# Altium integrated library TI Power Management Power Supply Support.IntLib: 88 symbols (part 4 of 4)
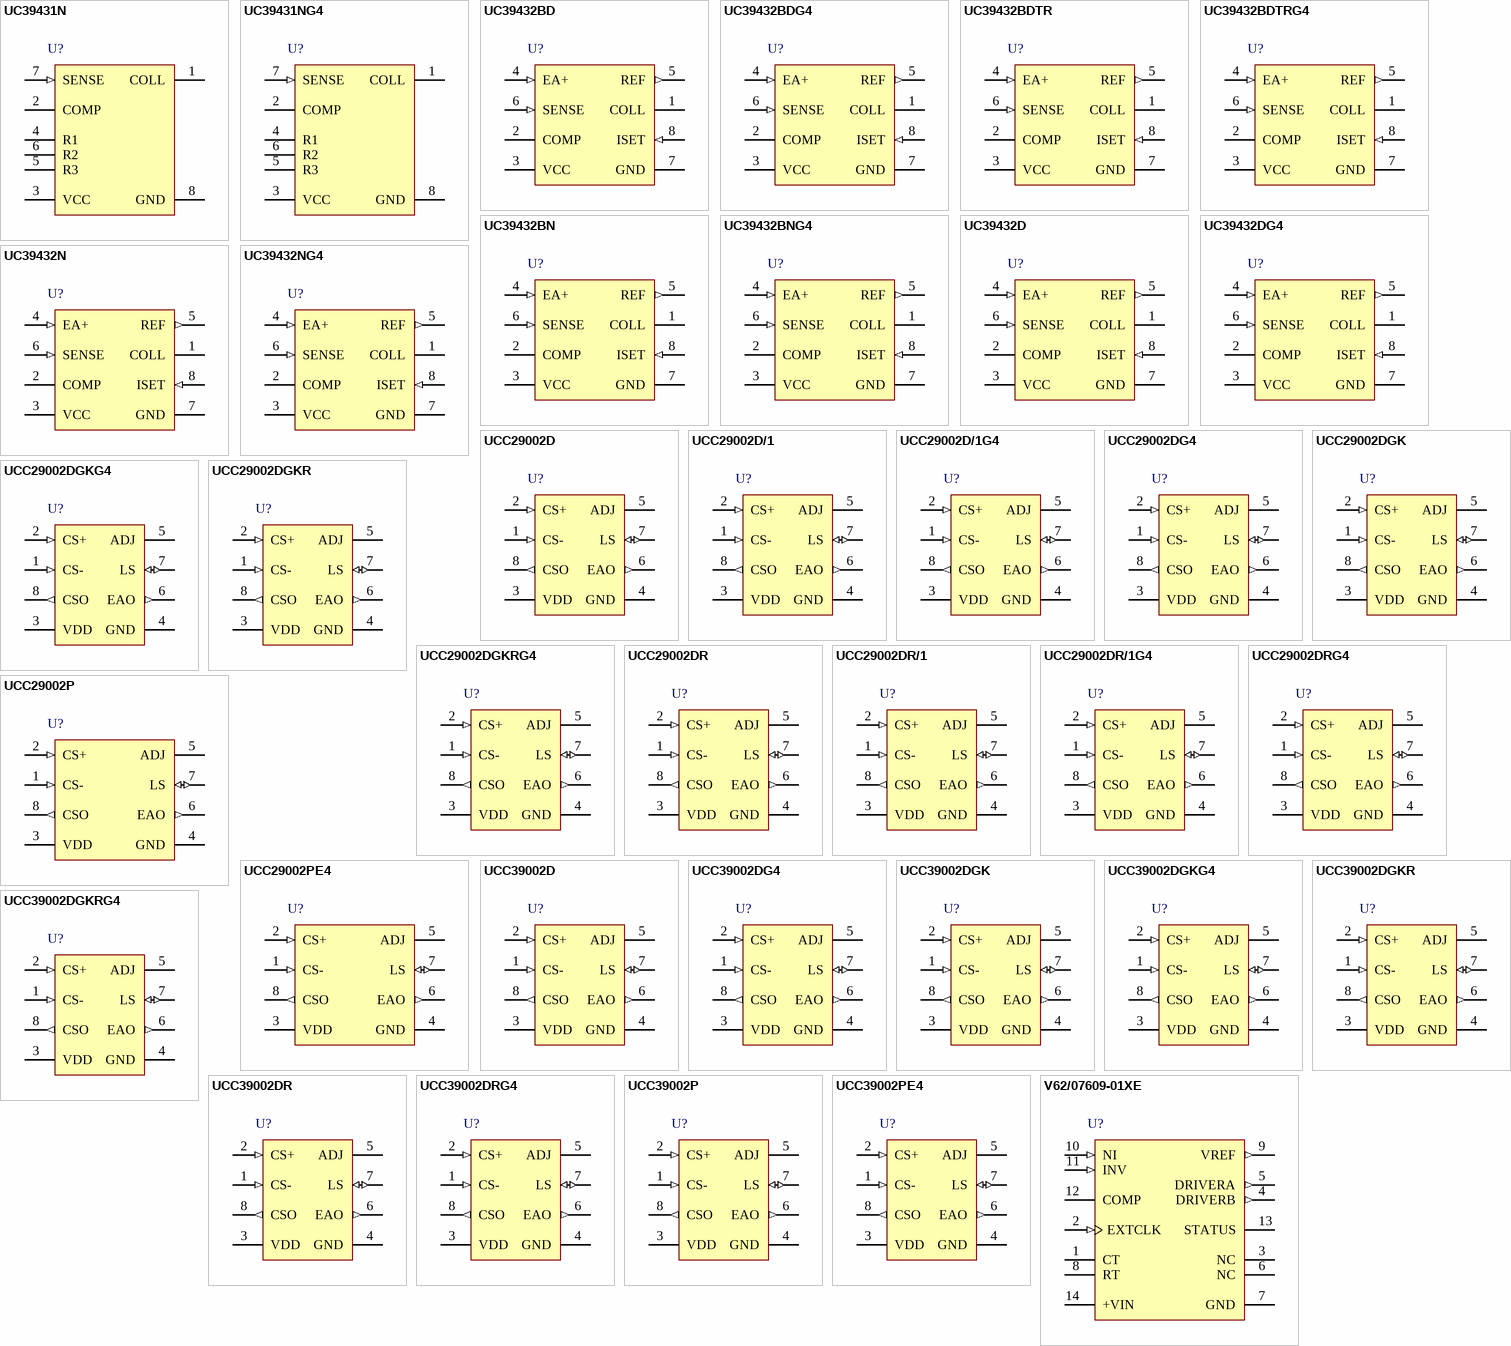
[diagram p5: symbols UC39431N to V62/07609-01XE]

## UCC39002DGKG4
designator U?
Advanced Loadshare Controller with UVLO, 4.375 to 14.25 V Supply, 0 to 70 degC, 8-pin VSSOP (DGK), Green (RoHS & no Sb/Br); Manufacturer: Texas Instruments; PartNumber: UCC39002DGKG4; Operating Supply Current(mA): 2.5; Operating Supply(Max)(V): 14.25; Operating Supply(Min)(V): 4.375; Rating: Catalog; Share Bus: Single-Ended; Startup Current(uA): 2500; UVLO: TRUE; DatasheetVersion: SLUS495H; PackageVersion: revE, May-2006; PackageReference: DGK8; PackageDescription: 8-Pin Thin Small Outline Package 3 x 3 mm Body ,0.65 mm Pitch; Supplier 1: Digi-Key; Supplier Part Number 1: UCC39002DGKG4-ND; Supplier 2: Newark; Supplier Part Number 2: 18M3324; Supplier 3: Mouser; Supplier Part Number 3: 595-UCC39002DGKG4; Eco-Plan: Green (RoHS & no Sb/Br); SubFamily: Load Share; Mounting Technology: Surface Mount; Code_JEDEC: MO-187-AA; ComponentLink1Description: Datasheet; ComponentLink1URL: http://www.ti.com/general/docs/lit/getliterature.tsp?genericPartNumber=UCC39002&fileType=pdf
footprint DGK8_N (TSOP, 8-Leads, Body 3x3mm, Pitch 0.65mm, IPC Medium Density)
footprint DGK8_L (TSOP, 8-Leads, Body 3x3mm, Pitch 0.65mm, IPC High Density)
footprint DGK8_M (TSOP, 8-Leads, Body 3x3mm, Pitch 0.65mm, IPC Low Density)
pins: 1 CS- (in) "Current sense amplifier inverting input.", 2 CS+ (in) "Current sense amplifier non-inverting input.", 3 VDD (power) "Power supply providing bias to the device. Bypass with a good quality, low ESL 0.1-uF to 1-uF, maximum, capacitor as close to the VDD pin and GND as possible.", 4 GND (power) "Ground. Reference ground and power ground for all device functions. Return the device to the low current sense- path of the converter.", 5 ADJ (power) "Adjust amplifier output. This is the buffered output of the error amplifier block to adjust output voltage of the power supply being controlled. This pin must always be connected to a voltage equal to or greater than VEAO + (See Datasheet)", 6 EAO (out) "Output for load share error amplifier. (Transconductance error amplifier.)", 7 LS (io) "Load share bus. Output of the load share bus driver amplifier.", 8 CSO (out) "Current sense amplifier output."

## UCC39002DGKR
designator U?
Advanced Loadshare Controller with UVLO, 4.375 to 14.25 V Supply, 0 to 70 degC, 8-pin VSSOP (DGK), Green (RoHS & no Sb/Br); Manufacturer: Texas Instruments; PartNumber: UCC39002DGKR; Operating Supply Current(mA): 2.5; Operating Supply(Max)(V): 14.25; Operating Supply(Min)(V): 4.375; Rating: Catalog; Share Bus: Single-Ended; Startup Current(uA): 2500; UVLO: TRUE; DatasheetVersion: SLUS495H; PackageVersion: revE, May-2006; PackageReference: DGK8; PackageDescription: 8-Pin Thin Small Outline Package 3 x 3 mm Body ,0.65 mm Pitch; Supplier 1: Digi-Key; Supplier Part Number 1: UCC39002DGKR-ND; Supplier 2: Newark; Supplier Part Number 2: 77C2550; Supplier 3: Mouser; Supplier Part Number 3: 595-UCC39002DGKR; Eco-Plan: Green (RoHS & no Sb/Br); SubFamily: Load Share; Mounting Technology: Surface Mount; Code_JEDEC: MO-187-AA; ComponentLink1Description: Datasheet; ComponentLink1URL: http://www.ti.com/general/docs/lit/getliterature.tsp?genericPartNumber=UCC39002&fileType=pdf
footprint DGK8_N (TSOP, 8-Leads, Body 3x3mm, Pitch 0.65mm, IPC Medium Density)
footprint DGK8_L (TSOP, 8-Leads, Body 3x3mm, Pitch 0.65mm, IPC High Density)
footprint DGK8_M (TSOP, 8-Leads, Body 3x3mm, Pitch 0.65mm, IPC Low Density)
pins: 1 CS- (in) "Current sense amplifier inverting input.", 2 CS+ (in) "Current sense amplifier non-inverting input.", 3 VDD (power) "Power supply providing bias to the device. Bypass with a good quality, low ESL 0.1-uF to 1-uF, maximum, capacitor as close to the VDD pin and GND as possible.", 4 GND (power) "Ground. Reference ground and power ground for all device functions. Return the device to the low current sense- path of the converter.", 5 ADJ (power) "Adjust amplifier output. This is the buffered output of the error amplifier block to adjust output voltage of the power supply being controlled. This pin must always be connected to a voltage equal to or greater than VEAO + (See Datasheet)", 6 EAO (out) "Output for load share error amplifier. (Transconductance error amplifier.)", 7 LS (io) "Load share bus. Output of the load share bus driver amplifier.", 8 CSO (out) "Current sense amplifier output."

## UCC39002DGKRG4
designator U?
Advanced Loadshare Controller with UVLO, 4.375 to 14.25 V Supply, 0 to 70 degC, 8-pin VSSOP (DGK), Green (RoHS & no Sb/Br); Manufacturer: Texas Instruments; PartNumber: UCC39002DGKRG4; Operating Supply Current(mA): 2.5; Operating Supply(Max)(V): 14.25; Operating Supply(Min)(V): 4.375; Rating: Catalog; Share Bus: Single-Ended; Startup Current(uA): 2500; UVLO: TRUE; DatasheetVersion: SLUS495H; PackageVersion: revE, May-2006; PackageReference: DGK8; PackageDescription: 8-Pin Thin Small Outline Package 3 x 3 mm Body ,0.65 mm Pitch; Supplier 1: Digi-Key; Supplier Part Number 1: UCC39002DGKRG4-ND; Supplier 2: Newark; Supplier Part Number 2: 27M1168; Supplier 3: Mouser; Supplier Part Number 3: 595-UCC39002DGKRG4; Eco-Plan: Green (RoHS & no Sb/Br); SubFamily: Load Share; Mounting Technology: Surface Mount; Code_JEDEC: MO-187-AA; ComponentLink1Description: Datasheet; ComponentLink1URL: http://www.ti.com/general/docs/lit/getliterature.tsp?genericPartNumber=UCC39002&fileType=pdf
footprint DGK8_N (TSOP, 8-Leads, Body 3x3mm, Pitch 0.65mm, IPC Medium Density)
footprint DGK8_L (TSOP, 8-Leads, Body 3x3mm, Pitch 0.65mm, IPC High Density)
footprint DGK8_M (TSOP, 8-Leads, Body 3x3mm, Pitch 0.65mm, IPC Low Density)
pins: 1 CS- (in) "Current sense amplifier inverting input.", 2 CS+ (in) "Current sense amplifier non-inverting input.", 3 VDD (power) "Power supply providing bias to the device. Bypass with a good quality, low ESL 0.1-uF to 1-uF, maximum, capacitor as close to the VDD pin and GND as possible.", 4 GND (power) "Ground. Reference ground and power ground for all device functions. Return the device to the low current sense- path of the converter.", 5 ADJ (power) "Adjust amplifier output. This is the buffered output of the error amplifier block to adjust output voltage of the power supply being controlled. This pin must always be connected to a voltage equal to or greater than VEAO + (See Datasheet)", 6 EAO (out) "Output for load share error amplifier. (Transconductance error amplifier.)", 7 LS (io) "Load share bus. Output of the load share bus driver amplifier.", 8 CSO (out) "Current sense amplifier output."

## UCC39002DR
designator U?
Advanced Loadshare Controller with UVLO, 4.375 to 14.25 V Supply, 0 to 70 degC, 8-pin SOIC (D), Green (RoHS & no Sb/Br); Manufacturer: Texas Instruments; PartNumber: UCC39002DR; Operating Supply Current(mA): 2.5; Operating Supply(Max)(V): 14.25; Operating Supply(Min)(V): 4.375; Rating: Catalog; Share Bus: Single-Ended; Startup Current(uA): 2500; UVLO: TRUE; DatasheetVersion: SLUS495H; PackageVersion: revM, Jun-2011; PackageReference: D8; PackageDescription: 8-Pin Plastic Small Outline Integrated Circuit, 4.9 x 3.9 mm, Pitch 1.27 mm Pitch; Supplier 1: Digi-Key; Supplier Part Number 1: 296-28012-2-ND; Supplier 2: Digi-Key; Supplier Part Number 2: 296-28012-1-ND; Supplier 3: Digi-Key; Supplier Part Number 3: 296-28012-6-ND; Supplier 4: Newark; Supplier Part Number 4: 77C2551; Supplier 5: Mouser; Supplier Part Number 5: 595-UCC39002DR; Eco-Plan: Green (RoHS & no Sb/Br); SubFamily: Load Share; Mounting Technology: Surface Mount; Code_JEDEC: MS-012AA; ComponentLink1Description: Datasheet; ComponentLink1URL: http://www.ti.com/general/docs/lit/getliterature.tsp?genericPartNumber=UCC39002&fileType=pdf
footprint D8_N (SOIC, 8-Leads, Body 4.9x3.9mm, Pitch 1.27mm, IPC Medium Density)
footprint D8_L (SOIC, 8-Leads, Body 4.9x3.9mm, Pitch 1.27mm, IPC High Density)
footprint D8_M (SOIC, 8-Leads, Body 4.9x3.9mm, Pitch 1.27mm, IPC Low Density)
pins: 1 CS- (in) "Current sense amplifier inverting input.", 2 CS+ (in) "Current sense amplifier non-inverting input.", 3 VDD (power) "Power supply providing bias to the device. Bypass with a good quality, low ESL 0.1-uF to 1-uF, maximum, capacitor as close to the VDD pin and GND as possible.", 4 GND (power) "Ground. Reference ground and power ground for all device functions. Return the device to the low current sense- path of the converter.", 5 ADJ (power) "Adjust amplifier output. This is the buffered output of the error amplifier block to adjust output voltage of the power supply being controlled. This pin must always be connected to a voltage equal to or greater than VEAO + (See Datasheet)", 6 EAO (out) "Output for load share error amplifier. (Transconductance error amplifier.)", 7 LS (io) "Load share bus. Output of the load share bus driver amplifier.", 8 CSO (out) "Current sense amplifier output."

## UCC39002DRG4
designator U?
Advanced Loadshare Controller with UVLO, 4.375 to 14.25 V Supply, 0 to 70 degC, 8-pin SOIC (D), Green (RoHS & no Sb/Br); Manufacturer: Texas Instruments; PartNumber: UCC39002DRG4; Operating Supply Current(mA): 2.5; Operating Supply(Max)(V): 14.25; Operating Supply(Min)(V): 4.375; Rating: Catalog; Share Bus: Single-Ended; Startup Current(uA): 2500; UVLO: TRUE; DatasheetVersion: SLUS495H; PackageVersion: revM, Jun-2011; PackageReference: D8; PackageDescription: 8-Pin Plastic Small Outline Integrated Circuit, 4.9 x 3.9 mm, Pitch 1.27 mm Pitch; Supplier 1: Digi-Key; Supplier Part Number 1: UCC39002DRG4-ND; Supplier 2: Newark; Supplier Part Number 2: 58K7080; Supplier 3: Mouser; Supplier Part Number 3: 595-UCC39002DRG4; Eco-Plan: Green (RoHS & no Sb/Br); SubFamily: Load Share; Mounting Technology: Surface Mount; Code_JEDEC: MS-012AA; ComponentLink1Description: Datasheet; ComponentLink1URL: http://www.ti.com/general/docs/lit/getliterature.tsp?genericPartNumber=UCC39002&fileType=pdf
footprint D8_N (SOIC, 8-Leads, Body 4.9x3.9mm, Pitch 1.27mm, IPC Medium Density)
footprint D8_L (SOIC, 8-Leads, Body 4.9x3.9mm, Pitch 1.27mm, IPC High Density)
footprint D8_M (SOIC, 8-Leads, Body 4.9x3.9mm, Pitch 1.27mm, IPC Low Density)
pins: 1 CS- (in) "Current sense amplifier inverting input.", 2 CS+ (in) "Current sense amplifier non-inverting input.", 3 VDD (power) "Power supply providing bias to the device. Bypass with a good quality, low ESL 0.1-uF to 1-uF, maximum, capacitor as close to the VDD pin and GND as possible.", 4 GND (power) "Ground. Reference ground and power ground for all device functions. Return the device to the low current sense- path of the converter.", 5 ADJ (power) "Adjust amplifier output. This is the buffered output of the error amplifier block to adjust output voltage of the power supply being controlled. This pin must always be connected to a voltage equal to or greater than VEAO + (See Datasheet)", 6 EAO (out) "Output for load share error amplifier. (Transconductance error amplifier.)", 7 LS (io) "Load share bus. Output of the load share bus driver amplifier.", 8 CSO (out) "Current sense amplifier output."

## UCC39002P
designator U?
Advanced Loadshare Controller with UVLO, 4.375 to 14.25 V Supply, 0 to 70 degC, 8-pin PDIP (P), Pb-Free (RoHS); Manufacturer: Texas Instruments; PartNumber: UCC39002P; Operating Supply Current(mA): 2.5; Operating Supply(Max)(V): 14.25; Operating Supply(Min)(V): 4.375; Rating: Catalog; Share Bus: Single-Ended; Startup Current(uA): 2500; UVLO: TRUE; DatasheetVersion: SLUS495H; PackageVersion: revE, Apr-2010; PackageReference: P8; PackageDescription: 8-Pin Plastic Dual-In-Line Package, Row Spacing 7.62 mm, Pitch 2.54 mm; Supplier 1: Digi-Key; Supplier Part Number 1: 296-13029-5-ND; Supplier 2: Newark; Supplier Part Number 2: 77C2552; Supplier 3: Mouser; Supplier Part Number 3: 595-UCC39002P; Eco-Plan: Pb-Free (RoHS); SubFamily: Load Share; Mounting Technology: Through Hole; Code_JEDEC: MS-001-BA; ComponentLink1Description: Datasheet; ComponentLink1URL: http://www.ti.com/general/docs/lit/getliterature.tsp?genericPartNumber=UCC39002&fileType=pdf
footprint P8 (DIP, 8-Leads, Row Spacing 7.62mm, Pitch 2.54mm, Body 9.6x6.4mm)
pins: 1 CS- (in) "Current sense amplifier inverting input.", 2 CS+ (in) "Current sense amplifier non-inverting input.", 3 VDD (power) "Power supply providing bias to the device. Bypass with a good quality, low ESL 0.1-µF to 1-µF, maximum, capacitor as close to the VDD pin and GND as possible.", 4 GND (power) "Ground. Reference ground and power ground for all device functions. Return the device to the low current sense- path of the converter.", 5 ADJ (power) "Adjust amplifier output. This is the buffered output of the error amplifier block to adjust output voltage of the power supply being controlled. This pin must always be connected to a voltage equal to or greater than VEAO + (See Datasheet)", 6 EAO (out) "Output for load share error amplifier. (Transconductance error amplifier.)", 7 LS (io) "Load share bus. Output of the load share bus driver amplifier.", 8 CSO (out) "Current sense amplifier output."

## UCC39002PE4
designator U?
Advanced Loadshare Controller with UVLO, 4.375 to 14.25 V Supply, 0 to 70 degC, 8-pin PDIP (P), Pb-Free (RoHS); Manufacturer: Texas Instruments; PartNumber: UCC39002PE4; Operating Supply Current(mA): 2.5; Operating Supply(Max)(V): 14.25; Operating Supply(Min)(V): 4.375; Rating: Catalog; Share Bus: Single-Ended; Startup Current(uA): 2500; UVLO: TRUE; DatasheetVersion: SLUS495H; PackageVersion: revE, Apr-2010; PackageReference: P8; PackageDescription: 8-Pin Plastic Dual-In-Line Package, Row Spacing 7.62 mm, Pitch 2.54 mm; Supplier 1: Digi-Key; Supplier Part Number 1: UCC39002PE4-ND; Supplier 2: Farnell; Supplier Part Number 2: 1214439; Supplier 3: Newark; Supplier Part Number 3: 24K6351; Supplier 4: Mouser; Supplier Part Number 4: 595-UCC39002PE4; Eco-Plan: Pb-Free (RoHS); SubFamily: Load Share; Mounting Technology: Through Hole; Code_JEDEC: MS-001-BA; ComponentLink1Description: Datasheet; ComponentLink1URL: http://www.ti.com/general/docs/lit/getliterature.tsp?genericPartNumber=UCC39002&fileType=pdf
footprint P8 (DIP, 8-Leads, Row Spacing 7.62mm, Pitch 2.54mm, Body 9.6x6.4mm)
pins: 1 CS- (in) "Current sense amplifier inverting input.", 2 CS+ (in) "Current sense amplifier non-inverting input.", 3 VDD (power) "Power supply providing bias to the device. Bypass with a good quality, low ESL 0.1-µF to 1-µF, maximum, capacitor as close to the VDD pin and GND as possible.", 4 GND (power) "Ground. Reference ground and power ground for all device functions. Return the device to the low current sense- path of the converter.", 5 ADJ (power) "Adjust amplifier output. This is the buffered output of the error amplifier block to adjust output voltage of the power supply being controlled. This pin must always be connected to a voltage equal to or greater than VEAO + (See Datasheet)", 6 EAO (out) "Output for load share error amplifier. (Transconductance error amplifier.)", 7 LS (io) "Load share bus. Output of the load share bus driver amplifier.", 8 CSO (out) "Current sense amplifier output."

## V62/07609-01XE
designator U?
Enhanced Product Isolated Feedback Generator, 4.5 to 40 V, -55 to 125 degC, 14-pin SOIC (D), Green (RoHS & no Sb/Br); Manufacturer: Texas Instruments; PartNumber: V62/07609-01XE; On Board Oscillator: Useable to 5 MHz; On Board Reference: Yes; Operating Supply Current(mA): 5; Operating Supply(Max)(V): 40; Operating Supply(Min)(V): 4.5; Output Current(A): 0.015; Rating: HiRel Enhanced Product; Reference Voltage(V): 1.5; Vref tol(%): 2; DatasheetVersion: SLUS709A; PackageVersion: revM, Jun-2011; PackageReference: D14; PackageDescription: 14-Pin Plastic Small Outline Integrated Circuit, 8.7 x 3.9 mm, Pitch 1.27 mm Pitch; Supplier 1: Newark; Supplier Part Number 1: 46M1901; Supplier 2: Mouser; Supplier Part Number 2: 595-V62/07609-01XE; Mounting Technology: Surface Mount; Code_JEDEC: MS-012AB; ComponentLink1Description: Datasheet; ComponentLink1URL: http://www.ti.com/general/docs/lit/getliterature.tsp?genericPartNumber=UC2901-EP&fileType=pdf
footprint D14_N (SOIC, 14-Leads, Body 8.7x3.9mm, Pitch 1.27mm, IPC Medium Density)
footprint D14_L (SOIC, 14-Leads, Body 8.7x3.9mm, Pitch 1.27mm, IPC High Density)
footprint D14_M (SOIC, 14-Leads, Body 8.7x3.9mm, Pitch 1.27mm, IPC Low Density)
pins: 1 CT, 2 EXTCLK (in), 3 NC, 4 DRIVERB (out), 5 DRIVERA (out), 6 NC, 7 GND (power), 8 RT, 9 VREF (out), 10 NI (in), 11 INV (in), 12 COMP, 13 STATUS (oc), 14 +VIN (power)